# Altium schematic symbol library Contact.SchLib: 8 symbols
Pins are listed as number, name and electrical type; pins without a type are passive.

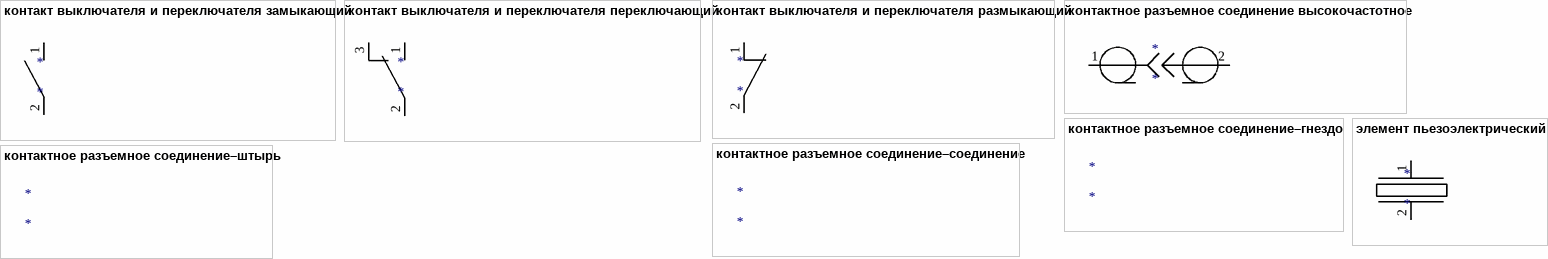
[diagram p0: symbols контакт выключателя и переключателя замыкающий to элемент пьезоэлектрический]

## контакт выключателя и переключателя замыкающий
designator *
pins: 1, 2

## контакт выключателя и переключателя переключающий
designator *
pins: 1, 2, 3

## контакт выключателя и переключателя размыкающий
designator *
pins: 1, 2

## контактное разъемное соединение высокочастотное
designator *
pins: 1, 2

## контактное разъемное соединение–гнездо
designator *

## контактное разъемное соединение–соединение
designator *

## контактное разъемное соединение–штырь
designator *

## элемент пьезоэлектрический
designator *
pins: 1, 2